# EAGLE library part HL-59T-2X1 (library Domino)
Dual RJ45 Modular Connector with 10/100Base-TX Transformer, no LED
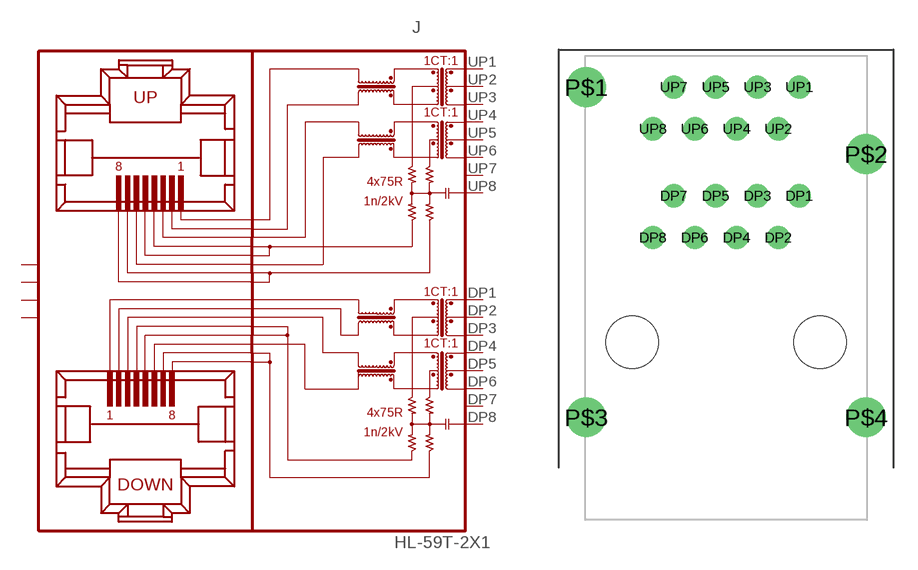
[diagram p36: symbol with the pads of HL-59T-2X1; footprint HL-59T-2X1]

Designator prefix J

## HL-59T-2X1  [HL-59T-2X1]
DP1  DR1  pas
DP2  DR2  pas
DP3  DR3  pas
DP4  DR4  pas
DP5  DR5  pas
DP6  DR6  pas
DP7  DR7  nc
DP8  DR8  pwr
P$1  SHIELD  pwr
P$2  SHIELD  pwr
P$3  SHIELD  pwr
P$4  SHIELD  pwr
UP1  UR1  pas
UP2  UR2  pas
UP3  UR3  pas
UP4  UR4  pas
UP5  UR5  pas
UP6  UR6  pas
UP7  UR7  nc
UP8  UR8  pwr

## Footprint HL-59T-2X1 (pad centres in mm)
Dual RJ45 Modular Connector with 10/100Base-TX Transformer, no LED
drill 0.9: DP1 4.445,8.89; DP2 3.175,6.35; DP3 1.905,8.89; DP4 0.635,6.35; DP5 -0.635,8.89; DP6 -1.905,6.35; DP7 -3.175,8.89; DP8 -4.445,6.35; UP1 4.445,15.5; UP2 3.175,12.96; UP3 1.905,15.5; UP4 0.635,12.96; UP5 -0.635,15.5; UP6 -1.905,12.96; UP7 -3.175,15.5; UP8 -4.445,12.96
drill 1.6: P$1 -8.505,15.5; P$2 8.505,11.43; P$3 -8.505,-4.57; P$4 8.505,-4.57
hole 3.2 at 5.715,0
hole 3.2 at -5.715,0